# EAGLE library part 21M*C (library crystal)
Monolithic Crystal Filters Source: www.vanlong.com
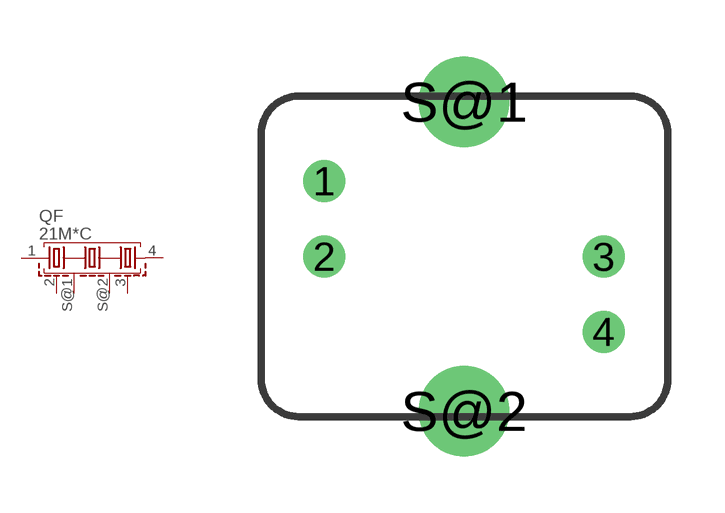
[diagram p5: symbol with the pads of M-1; footprint M-1]

Designator prefix QF

## 21M15C (OC_FARNELL: unknown; OC_NEWARK: unknown), 21M20C (OC_FARNELL: unknown; OC_NEWARK: unknown)  [M-1]
1  1  pas
2  2  pas
3  3  pas
4  4  pas
S@1  S  pas
S@2  S  pas

## Footprint M-1 (pad centres in mm)
Monolithic Crystal Filters Source: www.vanlong.com
drill 0.6 pad 1.016 round: 1 -3.7,2; 2 -3.7,0; 3 3.7,0; 4 3.7,-2
drill 1.6 pad 1.93 round: S@1 0,4.1; S@2 0,-4.1